# Altium integrated library Transceivers-Receivers.IntLib: 8 symbols
Pins are listed as number, name and electrical type; pins without a type are passive.

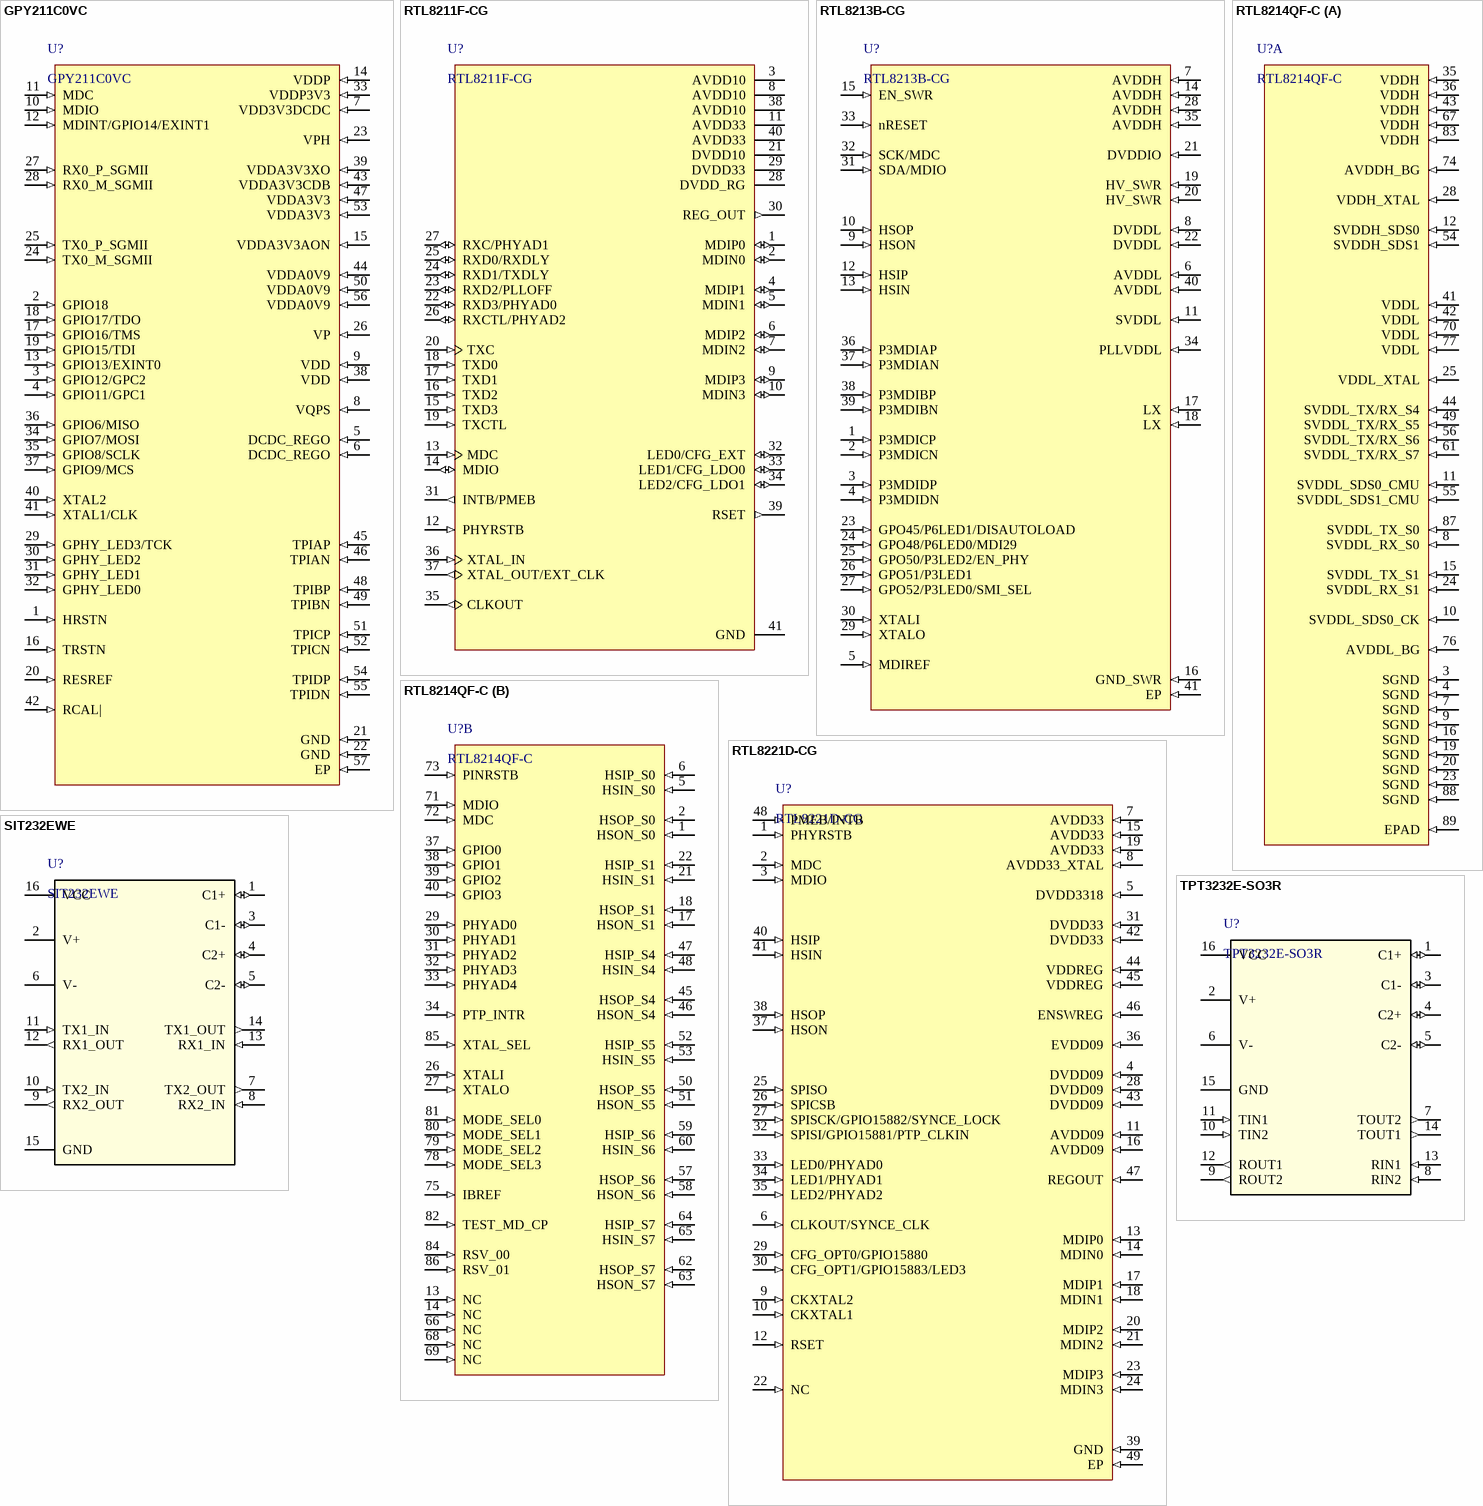
[diagram p0: symbols GPY211C0VC to TPT3232E-SO3R]

## GPY211C0VC
designator U?
Ethernet ICs TRANSVR IC GPY211C0VC VQFN56 SLNW8 COMM>; Manufacturer: MaxLinear; Supplier: DigiKey; Supplier Part Number: 1016-GPY211C0VC-ND; Manufacturer Part Number: GPY211C0VC; Category: Integrated Circuits (ICs); Stock: 1133; Pricing: 1=5,57, 10=4,263, 25=3,9352, 100=3,5748, 250=3,40296, 500=3,29944, 1000=3,2142, 2600=3,1209 (USD); Lifecycle Status: Production; ComponentLink1URL: https://datasheet.octopart.com:443/GPY211C0VC-MaxLinear-datasheet-175409704.pdf?src-supplier=IHS; ComponentLink1Description: https://datasheet.octopart.com:443/GPY211C0VC-MaxLinear-datasheet-175409704.pdf?src-supplier=IHS
footprint QFN40P700X700X90_HS-57N (QFN, 56-Leads, Body 7,00x7,00mm, Pitch 0,40mm, Thermal Pad 5,20x5,20mm, IPC Medium Density)
pins: 1 HRSTN (in), 2 GPIO18 (in), 3 GPIO12/GPC2 (in), 4 GPIO11/GPC1 (in), 5 DCDC_REGO (in), 6 DCDC_REGO (in), 7 VDD3V3DCDC (in), 8 VQPS (in), 9 VDD (in), 10 MDIO (in), 11 MDC (in), 12 MDINT/GPIO14/EXINT1 (in), 13 GPIO13/EXINT0 (in), 14 VDDP (in), 15 VDDA3V3AON (in), 16 TRSTN (in), 17 GPIO16/TMS (in), 18 GPIO17/TDO (in), 19 GPIO15/TDI (in), 20 RESREF (in), 21 GND (in), 22 GND (in), 23 VPH (in), 24 TX0_M_SGMII (in), 25 TX0_P_SGMII (in), 26 VP (in), 27 RX0_P_SGMII (in), 28 RX0_M_SGMII (in), 29 GPHY_LED3/TCK (in), 30 GPHY_LED2 (in), 31 GPHY_LED1 (in), 32 GPHY_LED0 (in), 33 VDDP3V3 (in), 34 GPIO7/MOSI (in), 35 GPIO8/SCLK (in), 36 GPIO6/MISO (in), 37 GPIO9/MCS (in), 38 VDD (in), 39 VDDA3V3XO (in), 40 XTAL2 (in), 41 XTAL1/CLK (in), 42 RCAL| (in), 43 VDDA3V3CDB (in), 44 VDDA0V9 (in), 45 TPIAP (in), 46 TPIAN (in), 47 VDDA3V3 (in), 48 TPIBP (in), 49 TPIBN (in), 50 VDDA0V9 (in), 51 TPICP (in), 52 TPICN (in), 53 VDDA3V3 (in), 54 TPIDP (in), 55 TPIDN (in), 56 VDDA0V9 (in), 57 EP (in)

## RTL8211F-CG
designator U?
Phy 1-CH 10MBPS/100MBPS/1GBPS 3.3V 40-PIN QFN Ep; Manufacturer: Realtek; Supplier: Future Electronics; Supplier Part Number: 1107763; Manufacturer Part Number: RTL8211F-CG; RoHS: No; RoHS Compliant: No
footprint QFN40P500X500X90_HS-41N (QFN, 40-Leads, Body 5,00x5,00mm, Pitch 0,40mm, Thermal Pad 3,70x3,70mm, IPC Medium Density)
pins: 1 MDIP0 (io), 2 MDIN0 (io), 3 AVDD10 (power), 4 MDIP1 (io), 5 MDIN1 (io), 6 MDIP2 (io), 7 MDIN2 (io), 8 AVDD10 (power), 9 MDIP3 (io), 10 MDIN3 (io), 11 AVDD33 (power), 12 PHYRSTB (in), 13 MDC (in), 14 MDIO (io), 15 TXD3 (in), 16 TXD2 (in), 17 TXD1 (in), 18 TXD0 (in), 19 TXCTL (in), 20 TXC (in), 21 DVDD10 (power), 22 RXD3/PHYAD0 (io), 23 RXD2/PLLOFF (io), 24 RXD1/TXDLY (io), 25 RXD0/RXDLY (io), 26 RXCTL/PHYAD2 (io), 27 RXC/PHYAD1 (io), 28 DVDD_RG (power), 29 DVDD33 (power), 30 REG_OUT (out), 31 INTB/PMEB (out), 32 LED0/CFG_EXT (io), 33 LED1/CFG_LDO0 (io), 34 LED2/CFG_LDO1 (io), 35 CLKOUT (out), 36 XTAL_IN (in), 37 XTAL_OUT/EXT_CLK (out), 38 AVDD10 (power), 39 RSET (out), 40 AVDD33 (power), 41 GND (power)

## RTL8213B-CG
designator U?
10/100/1000M Copper to 100Base-FX/1000Base-X Fiber Media Converter; Manufacturer: Realtek; Manufacturer Part Numebr: RTL8213B-CG; LCSC: C2766076; ComponentLink1Description: LCSC Link; ComponentLink1URL: https://www.lcsc.com/product-detail/C2766076.html
footprint QFN40P500X500X90_HS-41N-REALTEK (QFN, 40-Leads, Body 5,00x5,00mm, Pitch 0,40mm, Thermal Pad 3,60x3,60mm, IPC Medium Density)
pins: 1 P3MDICP (in), 2 P3MDICN (in), 3 P3MDIDP (in), 4 P3MDIDN (in), 5 MDIREF (in), 6 AVDDL (in), 7 AVDDH (in), 8 DVDDL (in), 9 HSON (in), 10 HSOP (in), 11 SVDDL (in), 12 HSIP (in), 13 HSIN (in), 14 AVDDH (in), 15 EN_SWR (in), 16 GND_SWR (in), 17 LX (in), 18 LX (in), 19 HV_SWR (in), 20 HV_SWR (in), 21 DVDDIO (in), 22 DVDDL (in), 23 GPO45/P6LED1/DISAUTOLOAD (in), 24 GPO48/P6LED0/MDI29 (in), 25 GPO50/P3LED2/EN_PHY (in), 26 GPO51/P3LED1 (in), 27 GPO52/P3LED0/SMI_SEL (in), 28 AVDDH (in), 29 XTALO (in), 30 XTALI (in), 31 SDA/MDIO (in), 32 SCK/MDC (in), 33 nRESET (in), 34 PLLVDDL (in), 35 AVDDH (in), 36 P3MDIAP (in), 37 P3MDIAN (in), 38 P3MDIBP (in), 39 P3MDIBN (in), 40 AVDDL (in), 41 EP (in)

## RTL8214QF-C
designator U?
footprint QFN40P1000X1000X100_HS-89N (QFN, 88-Leads, Body 10,00x10,00mm, Pitch 0,40mm, Thermal Pad 5,80x5,80mm, IPC Medium Density)
part A pins: 3 SGND (in), 4 SGND (in), 7 SGND (in), 8 SVDDL_RX_S0 (in), 9 SGND (in), 10 SVDDL_SDS0_CK (in), 11 SVDDL_SDS0_CMU (in), 12 SVDDH_SDS0 (in), 15 SVDDL_TX_S1 (in), 16 SGND (in), 19 SGND (in), 20 SGND (in), 23 SGND (in), 24 SVDDL_RX_S1 (in), 25 VDDL_XTAL (in), 28 VDDH_XTAL (in), 35 VDDH (in), 36 VDDH (in), 41 VDDL (in), 42 VDDL (in), 43 VDDH (in), 44 SVDDL_TX/RX_S4 (in), 49 SVDDL_TX/RX_S5 (in), 54 SVDDH_SDS1 (in), 55 SVDDL_SDS1_CMU (in), 56 SVDDL_TX/RX_S6 (in), 61 SVDDL_TX/RX_S7 (in), 67 VDDH (in), 70 VDDL (in), 74 AVDDH_BG (in), 76 AVDDL_BG (in), 77 VDDL (in), 83 VDDH (in), 87 SVDDL_TX_S0 (in), 88 SGND (in), 89 EPAD (in)
part B pins: 1 HSON_S0 (in), 2 HSOP_S0 (in), 5 HSIN_S0 (in), 6 HSIP_S0 (in), 13 NC (in), 14 NC (in), 17 HSON_S1 (in), 18 HSOP_S1 (in), 21 HSIN_S1 (in), 22 HSIP_S1 (in), 26 XTALI (in), 27 XTALO (in), 29 PHYAD0 (in), 30 PHYAD1 (in), 31 PHYAD2 (in), 32 PHYAD3 (in), 33 PHYAD4 (in), 34 PTP_INTR (in), 37 GPIO0 (in), 38 GPIO1 (in), 39 GPIO2 (in), 40 GPIO3 (in), 45 HSOP_S4 (in), 46 HSON_S4 (in), 47 HSIP_S4 (in), 48 HSIN_S4 (in), 50 HSOP_S5 (in), 51 HSON_S5 (in), 52 HSIP_S5 (in), 53 HSIN_S5 (in), 57 HSOP_S6 (in), 58 HSON_S6 (in), 59 HSIP_S6 (in), 60 HSIN_S6 (in), 62 HSOP_S7 (in), 63 HSON_S7 (in), 64 HSIP_S7 (in), 65 HSIN_S7 (in), 66 NC (in), 68 NC (in), 69 NC (in), 71 MDIO (in), 72 MDC (in), 73 PINRSTB (in), 75 IBREF (in), 78 MODE_SEL3 (in), 79 MODE_SEL2 (in), 80 MODE_SEL1 (in), 81 MODE_SEL0 (in), 82 TEST_MD_CP (in), 84 RSV_00 (in), 85 XTAL_SEL (in), 86 RSV_01 (in)

## RTL8221D-CG
designator U?
Manufacturer: Realtek; Manufacturer Part Number: RTL8221D-CG
footprint QFN40P600X600X100_HS-49N (QFN, 48-Leads, Body 6,00x6,00mm, Pitch 0,40mm, Thermal Pad 4,30x4,30mm, IPC Medium Density)
pins: 1 PHYRSTB (in), 2 MDC (in), 3 MDIO (in), 4 DVDD09 (in), 5 DVDD3318 (in), 6 CLKOUT/SYNCE_CLK (in), 7 AVDD33 (in), 8 AVDD33_XTAL (in), 9 CKXTAL2 (in), 10 CKXTAL1 (in), 11 AVDD09 (in), 12 RSET (in), 13 MDIP0 (in), 14 MDIN0 (in), 15 AVDD33 (in), 16 AVDD09 (in), 17 MDIP1 (in), 18 MDIN1 (in), 19 AVDD33 (in), 20 MDIP2 (in), 21 MDIN2 (in), 22 NC (in), 23 MDIP3 (in), 24 MDIN3 (in), 25 SPISO (in), 26 SPICSB (in), 27 SPISCK/GPIO15882/SYNCE_LOCK (in), 28 DVDD09 (in), 29 CFG_OPT0/GPIO15880 (in), 30 CFG_OPT1/GPIO15883/LED3 (in), 31 DVDD33 (in), 32 SPISI/GPIO15881/PTP_CLKIN (in), 33 LED0/PHYAD0 (in), 34 LED1/PHYAD1 (in), 35 LED2/PHYAD2 (in), 36 EVDD09 (in), 37 HSON (in), 38 HSOP (in), 39 GND (in), 40 HSIP (in), 41 HSIN (in), 42 DVDD33 (in), 43 DVDD09 (in), 44 VDDREG (in), 45 VDDREG (in), 46 ENSWREG (in), 47 REGOUT (in), 48 PMEB/INTB (in), 49 EP (in)

## SIT232EWE
designator U?
5V Single Supply Dual Channel RS232 Transceiver SOPW16; Manufacturer: SIT; Supplier 1: LCSC; Supplier 1 Part Number: C382673; Manufacturer Part Number: SIT232EWE; RoHS: Yes; Category: Transceiver RS232; Interface: RS232; RoHS Compliant: Yes; ComponentLink1URL: https://www.lcsc.com/product-detail/C382673.html?s_z=n_q_SIT232&spm=wm.fly.bg.1.xh&lcsc_vid=EVRWVVBURVgMUVdfEVEIBl1XQFJcAlIHEQJYBgZQRAIxVlNeQFFWU1dTQ1BdVDsOAxUeFF5JWBYZEEoKFBINSQcJGk4NBhADEA4cHktQQlBADxALGw%3D%3D; ComponentLink1Description: LCSC; ComponentLink2URL: http://en.sitcores.com/uploadfile/2024/0517/20240517050309634.pdf; ComponentLink2Description: Datasheet
footprint SIT232EWE-SOPW16
pins: 1 C1+ (io), 2 V+ (power), 3 C1- (io), 4 C2+ (io), 5 C2- (io), 6 V- (power), 7 TX2_OUT (out), 8 RX2_IN (in), 9 RX2_OUT (out), 10 TX2_IN (in), 11 TX1_IN (in), 12 RX1_OUT (out), 13 RX1_IN (in), 14 TX1_OUT (out), 15 GND (power), 16 VCC (power)

## TPT3232E-SO3R
designator U?
1/1 Transceiver Full RS232 16-SOP; Manufacturer: 3PEAK; Supplier 1: LCSC; Supplier 1 Part Number: C2887186; Manufacturer Part Number: TPT3232E-SO3R; RoHS: Yes; Category: Transceiver RS232; Interface: RS232; RoHS Compliant: Yes; ComponentLink1URL: https://www.lcsc.com/product-detail/C2887186.html?s_z=n_q_t_3232E&spm=wm.fly.bg.1.xh___wm.ssy.tc.0.tz&lcsc_vid=RgVfV1NeEQBdVFZfE1ANXwcAT1IPVFJTE1RdBlwDTgAxVlNeRFFWXlBST1dXXjsOAxUeFF5JWBYZEEoKFBINSQcJGk4dAgUUFAk%3D; ComponentLink1Description: LCSC; ComponentLink2URL: https://www.lcsc.com/datasheet/C2887186.pdf?spm=wm.sxq.inf.ggs___wm.fly.bg.1.xh&lcsc_vid=RgVfV1NeEQBdVFZfE1ANXwcAT1IPVFJTE1RdBlwDTgAxVlNeRFFWXlBST1dXXjsOAxUeFF5JWBYZEEoKFBINSQcJGk4dAgUUFAk%3D; ComponentLink2Description: Datasheet
footprint SO3RSOP16_TPK (/ 150726 / J.Jaramillo)
pins: 1 C1+ (io), 2 V+ (power), 3 C1- (io), 4 C2+ (io), 5 C2- (io), 6 V- (power), 7 TOUT2 (out), 8 RIN2 (in), 9 ROUT2 (out), 10 TIN2 (in), 11 TIN1 (in), 12 ROUT1 (out), 13 RIN1 (in), 14 TOUT1 (out), 15 GND (power), 16 VCC (power)

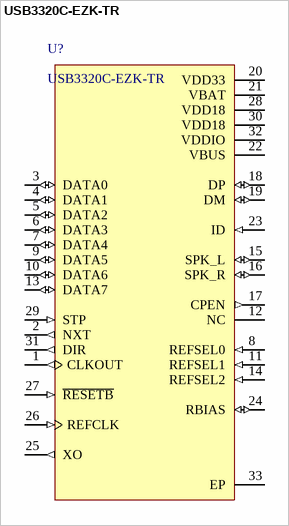
[diagram p1: symbol USB3320C-EZK-TR]

## USB3320C-EZK-TR
designator U?
1/1 Transceiver Half USB 2.0 32-QFN (5x5); Manufacturer: Microchip; Data Rate: 12Mbps; Interface: UART; Operating Supply Current: 18uA; ESD Protection: Yes; Number of Transceivers: 1; Operating Supply Voltage: 5.5V; Frequency: 60MHz; Simplex/Duplex: Half Duplex; Receiver Hysteresis: 50mV; Supplier: Digi-Key; Supplier Part Number: USB3320C-EZK-CT-ND; Manufacturer Part Number: USB3320C-EZK-TR; RoHS: Yes; Category: USB Interface ICs; Stock: 20606; Pricing: 1=2,17000, 25=1,80000, 100=1,65000 (USD); Case/Package: QFN; Pins: 32; Weight: 0.006653oz; Min Operating Temperature: -40°C; Max Operating Temperature: 85°C; Package Quantity: 4000; Packaging: Tape and Reel; Series: flexPWR™; Length: 5.1mm; Width: 5.1mm; Height: 0.95mm; Radiation Hardening: No; Lead Free: Lead Free; RoHS Compliant: Yes; ComponentLink1URL: https://datasheet.ciiva.com/29718/3320-29718762.pdf?src-supplier=Digi-Key; ComponentLink1Description: https://datasheet.ciiva.com/29718/3320-29718762.pdf?src-supplier=Digi-Key; ComponentLink2URL: https://datasheet.ciiva.com/6635/filehandler-aspxddocname-en562261-6635128.pdf?src-supplier=Digi-Key; ComponentLink2Description: https://datasheet.ciiva.com/6635/filehandler-aspxddocname-en562261-6635128.pdf?src-supplier=Digi-Key; ComponentLink3URL: https://datasheet.ciiva.com/29718/filehandler-aspxddocname-en562261-29718763.pdf?src-supplier=Digi-Key; ComponentLink3Description: https://datasheet.ciiva.com/29718/filehandler-aspxddocname-en562261-29718763.pdf?src-supplier=Digi-Key
footprint QFN50P500X500X100_HS-33N (QFN, 32-Leads, Body 5,00x5,00mm, Pitch 0,50mm, Thermal Pad 3,30x3,30mm, IPC Medium Density)
pins: 1 CLKOUT (out), 2 NXT (out), 3 DATA0 (io), 4 DATA1 (io), 5 DATA2 (io), 6 DATA3 (io), 7 DATA4 (io), 8 REFSEL0 (in), 9 DATA5 (io), 10 DATA6 (io), 11 REFSEL1 (in), 12 NC (power), 13 DATA7 (io), 14 REFSEL2 (in), 15 SPK_L (io), 16 SPK_R (io), 17 CPEN (out), 18 DP (io), 19 DM (io), 20 VDD33 (power), 21 VBAT (power), 22 VBUS (power), 23 ID (in), 24 RBIAS (io), 25 XO (out), 26 REFCLK (in), 27 ~{RESETB} (in), 28 VDD18 (power), 29 STP (in), 30 VDD18 (power), 31 DIR (out), 32 VDDIO (power), 33 EP (power)